# EAGLE library part HEADER-2X5 (library uBraids_SE_Library)
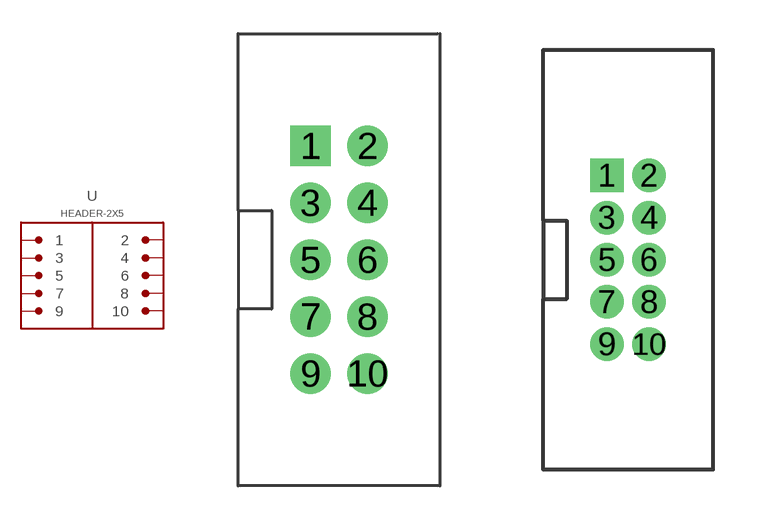
[diagram p1: symbol with the pads of PTH-0.1-2X5-SHROUDED; footprints PTH-0.1-2X5-SHROUDED, PTH-0.05-2X5-SHROUDED]

Designator prefix -

## HEADER-2X5-PTH-0.1-SHROUDED  [PTH-0.1-2X5-SHROUDED]
1  1
2  2
3  3
4  4
5  5
6  6
7  7
8  8
9  9
10  10

## HEADER-2X5-PTH-0.05-SHROUDED  [PTH-0.05-2X5-SHROUDED]
Pads as for PTH-0.1-2X5-SHROUDED

## HEADER-2X5-PTH-0.05-SHROUDED-SMD  [PTH-0.05-2X5-SHROUDED-SMD]
Pads as for PTH-0.1-2X5-SHROUDED

## Footprint PTH-0.1-2X5-SHROUDED (pad centres in mm)
drill 1 pad 1.8 square: 1 -1.27,5.08
drill 1 pad 1.8: 2 1.27,5.08; 3 -1.27,2.54; 4 1.27,2.54; 5 -1.27,0; 6 1.27,0; 7 -1.27,-2.54; 8 1.27,-2.54; 9 -1.27,-5.08; 10 1.27,-5.08

## Footprint PTH-0.05-2X5-SHROUDED (pad centres in mm)
drill 0.5 pad 0.9 square: 1 -0.635,2.54
drill 0.5 pad 0.9: 2 0.635,2.54; 3 -0.635,1.27; 4 0.635,1.27; 5 -0.635,0; 6 0.635,0; 7 -0.635,-1.27; 8 0.635,-1.27; 9 -0.635,-2.54; 10 0.635,-2.54

## Footprint PTH-0.05-2X5-SHROUDED-SMD (pad centres in mm)
smd 2.4 x 0.76: 1 -1.95,2.54; 2 1.95,2.54; 3 -1.95,1.27; 4 1.95,1.27; 5 -1.95,0; 6 1.95,0; 7 -1.95,-1.27; 8 1.95,-1.27; 9 -1.95,-2.54; 10 1.95,-2.54